# EAGLE library part WE-RJ45_10G_7499611421 (library WE-RJ45_10G)
WE-RJ45 10G Transformer Characteristics RJ45 Connector with integrated transformer / common mode choke Power over Ethernet up to 50 Watt and speeds up to 10 Gbit/s Available in SMD, THT and THT with USB Compliant with standards: IEEE 802.3u, IEEE 802.3ab, IEEE 802.3af, IEEE 802.3at, IEEE 802.3an and upcoming IEE 802.3bt Applications Suitable for industrial temperatures from –40 °C up to +85 °C Compatible to Industrial Ethernet systems like EtherCAT or Profinet Compliant with most IC’s for Ethernet applications such as Microchip, Texas Instruments, Broadcom, Linear Technology Hubs, Routers, Switches, IP cameras, IoT applications <https://katalog.we-online.com/media/images/v2/o122818v209%20Family_WE-RJ45LAN_10G_7499611420_a.jpg> Details see: https://katalog.we-online.com/en/pbs/WE-LAN-RJ45-10G Updated By Ella Wu 2019-08-15 2019 (C) Wurth Elektronik
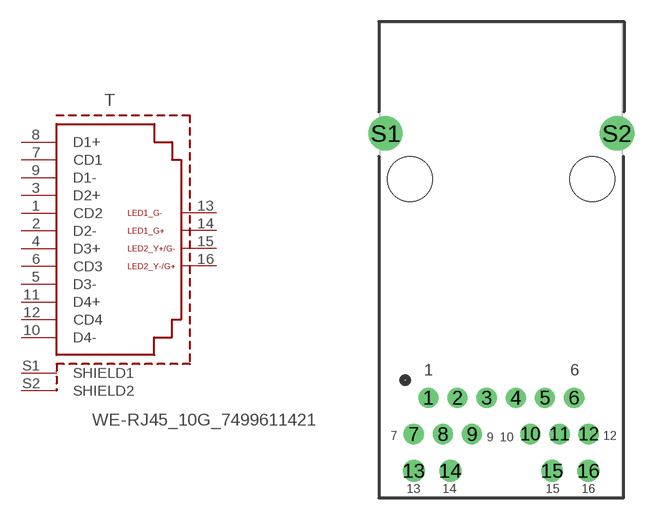
[diagram p4: symbol with the pads of 7499611421; footprint 7499611421]

Designator prefix T

## WE-RJ45_10G_7499611421 (DATA-RATE: 10G Base-T; DATASHEET-URL: https://www.we-online.com/catalog/datasheet/7499611421.pdf; LED: yellow/green-green; MOUNT: THT; PART-NUMBER: 7499611421; POE: non-PoE; PORTS: 1; USB: No; VALUE: 7499611421)  [7499611421]
1  CD2
2  D2-
3  D2+
4  D3+
5  D3-
6  CD3
7  CD1
8  D1+
9  D1-
10  D4-
11  D4+
12  CD4
13  LED1_G-
14  LED1_G+
15  LED2_Y+/G-
16  LED2_Y-/G+
S1  SHIELD1  pwr
S2  SHIELD2  pwr

## Footprint 7499611421 (pad centres in mm)
WE-RJ45 10G Transformer 10G Base-T MAX HEIGHT=13.87mm
drill 0.9: 1 -5.075,-15.24; 2 -3.045,-15.24; 3 -1.015,-15.24; 4 1.015,-15.24; 5 3.045,-15.24; 6 5.075,-15.24; 7 -6.095,-17.78; 8 -4.065,-17.78; 9 -2.035,-17.78; 10 2.035,-17.78; 11 4.065,-17.78; 12 6.095,-17.78
drill 1.02: 13 -6.09,-20.32; 14 -3.55,-20.32; 15 3.55,-20.32; 16 6.09,-20.32
drill 1.6: S1 -8.065,3.18; S2 8.065,3.18
hole 3.15 at 6.35,0
hole 3.15 at -6.35,0